# Altium schematic symbol library PMIC - Power Management - Specialized.SchLib: 2 symbols
Pins are listed as number, name and electrical type; pins without a type are passive.

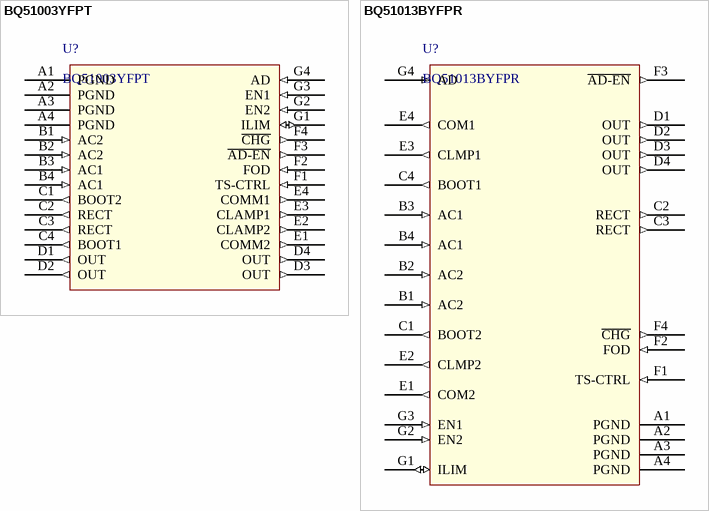
[diagram p0: symbols BQ51003YFPT to BQ51013BYFPR]

## BQ51003YFPT
designator U?
IC WIRELESS PWR RCVR 28DSBGA; Manufacturer: Texas Instruments; Current - Supply: 500mA; Voltage - Supply: 4 V ~ 10 V; Supplier 1: Digi-Key; Supplier Part Number 1: 296-37245-1-ND; Manufacturer Part Number: BQ51003YFPT; RoHS: RoHS Compliant; Category: Integrated Circuits (ICs); Stock 1: 1012; Pricing 1: 1=3.35, 10=2.99, 25=2.6908, 100=2.4517 (USD); Packaging: Cut Tape (CT); Part Status: Active; Applications: Wireless Power Receiver; Operating Temperature: -40°C ~ 85°C; Mounting Type: Surface Mount; Supplier Device Package: 28-DSBGA; ComponentLink1URL: http://www.ti.com/lit/ds/symlink/bq51003.pdf; ComponentLink1Description: http://www.ti.com/lit/ds/symlink/bq51003.pdf; Package: 28-XFBGA, DSBGA
footprint YFP28
pins: A1 PGND (power), A2 PGND (power), A3 PGND (power), A4 PGND (power), B1 AC2 (in), B2 AC2 (in), B3 AC1 (in), B4 AC1 (in), C1 BOOT2 (out), C2 RECT (out), C3 RECT (out), C4 BOOT1 (out), D1 OUT (out), D2 OUT (out), D3 OUT (out), D4 OUT (out), E1 COMM2 (out), E2 CLAMP2 (out), E3 CLAMP1 (out), E4 COMM1 (out), F1 TS-CTRL (in), F2 FOD (in), F3 ~{AD-EN} (out), F4 ~{CHG} (out), G1 ILIM (io), G2 EN2 (in), G3 EN1 (in), G4 AD (in)

## BQ51013BYFPR
designator U?
IC WIRELESS PWR RCVR 28DSBGA; Manufacturer: Texas Instruments; Current - Supply: 8mA; Voltage - Supply: 4 V ~ 10 V; Supplier 1: Digi-Key; Supplier Part Number 1: 296-39955-1-ND; Manufacturer Part Number: BQ51013BYFPR; RoHS: RoHS Compliant; Category: Integrated Circuits (ICs); Stock 1: 3099; Pricing 1: 1=3.32, 10=2.978, 100=2.4403, 500=2.0774, 1000=1.75203 (USD); Packaging: Cut Tape (CT); Part Status: Active; Applications: Wireless Power Receiver; Operating Temperature: 0°C ~ 125°C; Mounting Type: Surface Mount; Supplier Device Package: 28-DSBGA; ComponentLink1URL: http://www.ti.com/lit/ds/symlink/bq51013b.pdf; ComponentLink1Description: http://www.ti.com/lit/ds/symlink/bq51013b.pdf; Package: 28-XFBGA, DSBGA
footprint YFP28
pins: A1 PGND (power), A2 PGND (power), A3 PGND (power), A4 PGND (power), B1 AC2 (in), B2 AC2 (in), B3 AC1 (in), B4 AC1 (in), C1 BOOT2 (out), C2 RECT (out), C3 RECT (out), C4 BOOT1 (out), D1 OUT (out), D2 OUT (out), D3 OUT (out), D4 OUT (out), E1 COM2 (out), E2 CLMP2 (out), E3 CLMP1 (out), E4 COM1 (out), F1 TS-CTRL (in), F2 FOD (in), F3 ~{AD-EN} (out), F4 ~{CHG} (out), G1 ILIM (io), G2 EN2 (in), G3 EN1 (in), G4 AD (in)